# Altium footprint library 67298-3091.PcbLib: 1 footprints
Each footprint in its own frame and in the unit in brackets; x right, y up, seen from the top. Pads: shape width x height; smd on the part's side, far side on the other; paste and mask are expansions set on the pad; w line width, h text height; cw(c..) or ccw(c..) is an arc to the next point about the centre after c.
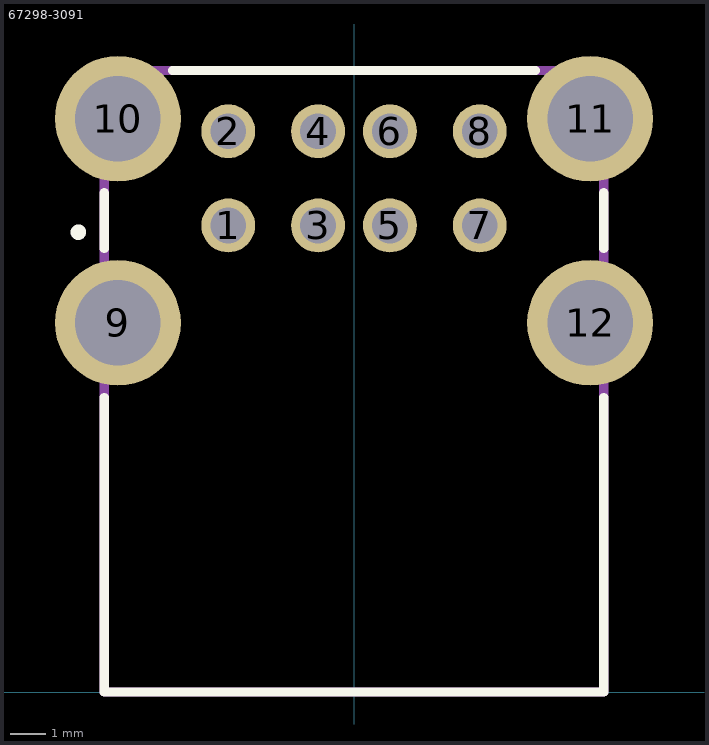
[diagram p0: the footprint, top view; thin cyan lines are the x and y axes]

## 67298-3091 [mm]
pads (12):
  round 1.5 hole 1: 1(-3.5,12.99) 2(-3.5,15.61) 3(-1,12.99) 4(-1,15.61) 5(1,12.99) 6(1,15.61) 7(3.5,12.99) 8(3.5,15.61)
  round 3.5 hole 2.38: 9(-6.57,10.28) 10(-6.57,15.96) 11(6.57,15.96) 12(6.57,10.28)
Top Overlay:
  circle w0.254: c-7.671,12.802 r0.089
  lines w0.254: -6.95,8.2 -6.95,0 6.95,0 6.95,8.2 ; -6.95,12.35 -6.95,13.9 ; -5.048,17.3 5.048,17.3 ; 6.95,12.35 6.95,13.9
Mechanical 13:
  lines w0.254: -6.95,0 6.95,0 6.95,17.3 -6.95,17.3 -6.95,0
3D body "67298-3091.stp": height 15.82, standoff -3.34, extent -7.662,-0.81 7.662,17.05